# Altium schematic symbol library Resistors1.SchLib: 13 symbols
Pins are listed as number, name and electrical type; pins without a type are passive.

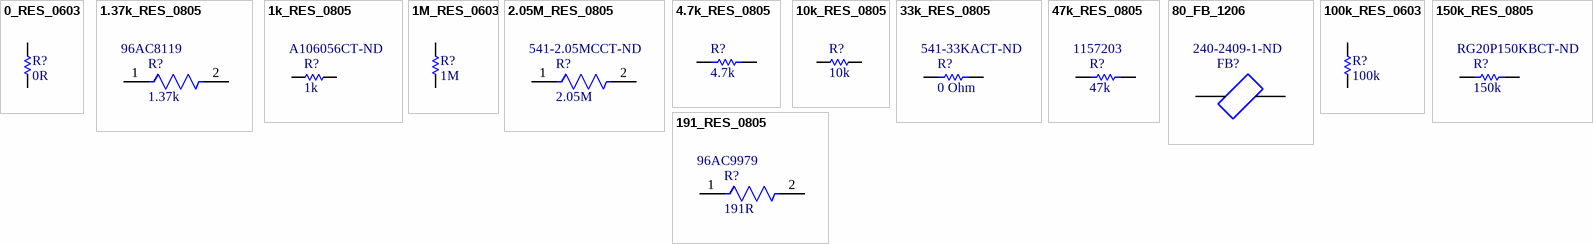
[diagram p0: symbols 0_RES_0603 to 191_RES_0805]

## 0_RES_0603
designator R?, comment SchematicInformation: 0R  (hidden comment: RES_0R_1%_0603)
Fixed Resistor, Metal Glaze/thick Film, 0.1W, 0ohm, Surface Mount, 0603; Manufacturer Part Number: RC0603FR-070RL; Manufacturer: Yageo; DigiKey Part Number: 311-0.0HRCT-ND; Supplier 1: Newark; RoHS: Yes; Category: Chip SMD Resistors; Stock 1: 133959; Pricing 1: 10=0.01200, 25=0.01000, 50=0.00700, 100=0.00500 (USD); ComponentLink1URL: https://datasheet.ciiva.com:443/pdfs/VipMasterIC/IC/YAGO/YAGOS02869/YAGOS02869-1.pdf?src-supplier=IHS+Markit; ComponentLink1Description: https://datasheet.ciiva.com:443/pdfs/VipMasterIC/IC/YAGO/YAGOS02869/YAGOS02869-1.pdf?src-supplier=IHS+Markit; ComponentLink2URL: https://datasheet.ciiva.com/11808/0900766b80f96399-11808172.pdf?src-supplier=RSComponents; ComponentLink2Description: https://datasheet.ciiva.com/11808/0900766b80f96399-11808172.pdf?src-supplier=RSComponents; ComponentLink3URL: https://datasheet.ciiva.com/5558/rc0603-272842-5558341.pdf?src-supplier=Mouser; ComponentLink3Description: https://datasheet.ciiva.com/5558/rc0603-272842-5558341.pdf?src-supplier=Mouser; ComponentLink4URL: https://datasheet.ciiva.com/29721/pyu-r-int-thick-7-29721178.pdf?src-supplier=Digi-Key; ComponentLink4Description: https://datasheet.ciiva.com/29721/pyu-r-int-thick-7-29721178.pdf?src-supplier=Digi-Key; ComponentLink5URL: https://datasheet.ciiva.com/29721/pyu-rc0603-51-rohs-l-4-29721179.pdf?src-supplier=Digi-Key; ComponentLink5Description: https://datasheet.ciiva.com/29721/pyu-rc0603-51-rohs-l-4-29721179.pdf?src-supplier=Digi-Key; ComponentLink6URL: https://datasheet.ciiva.com/5684/443971-5684699.pdf?src-supplier=Farnell; ComponentLink6Description: https://datasheet.ciiva.com/5684/443971-5684699.pdf?src-supplier=Farnell; ComponentLink7URL: https://datasheet.ciiva.com/7983/443971-7983627.pdf?src-supplier=Element14; ComponentLink7Description: https://datasheet.ciiva.com/7983/443971-7983627.pdf?src-supplier=Element14; ComponentLink8URL: https://datasheet.ciiva.com/22643/1868787-22643388.pdf?src-supplier=Element14; ComponentLink8Description: https://datasheet.ciiva.com/22643/1868787-22643388.pdf?src-supplier=Element14; ComponentLink9URL: https://datasheet.ciiva.com/46382/443971-46382072.pdf?src-supplier=Element14; ComponentLink9Description: https://datasheet.ciiva.com/46382/443971-46382072.pdf?src-supplier=Element14; Supplier Part Number 1: 50Y7761
footprint R_0603 (Footprint not found)
pins: 1, 2

## 1.37k_RES_0805
designator R?, comment 1.37k  Supplier Part Number 1: 96AC8119
Fixed Resistor, Thin Film, 0.2W, 1370ohm, 100V, 0.1% +/-Tol, 10ppm/Cel, Surface Mount, 0805; Manufacturer: TE Connectivity; Manufacturer Part Number: RQ73C2A1K37BTD; Value: 1.37KΩ; Automotive Grade: Grade 0; Temperature Coefficient: 10ppm/°C; Temperature Range High: +155°C; RoHS: TRUE; Ipc Land Pattern Name: RESC200125X50; Voltage Rating: 100V; Device Class L2: Resistors; Resistance: 1.37KΩ; Series: RQ73; Category: Res; Composition: Thin Film; Automotive: Yes; Height: 0.65mm; Device Class L1: Passive Components; ComponentLink2Description: Datasheet; Temperature: -55°C to +155°C; Octopart: https://octopart.com/rq73c2a1k37btd-te+connectivity-93909715; Package: RQ73C2A; ComponentLink2URL: https://www.te.com/commerce/DocumentDelivery/DDEController?Action=showdoc&DocId=Data+Sheet%7F1773270-2%7FA%7Fpdf%7FEnglish%7FENG_DS_1773270-2_A.pdf%7F8-2176381-365; Power Rating: 0.2W; Temperature Range Low: -55°C; Lead Free: Yes; Device Class L3: Chip SMD Resistors; Tolerance: 0.1%; Supplier 1: Newark; RoHS Compliant: Yes; ComponentLink1URL: https://datasheet.ciiva.com:443/pdfs/VipMasterIC/IC/TYEL/TYEL-S-A0009522825/TYEL-S-A0009524488-1.pdf?src-supplier=IHS+Markit; ComponentLink1Description: https://datasheet.ciiva.com:443/pdfs/VipMasterIC/IC/TYEL/TYEL-S-A0009522825/TYEL-S-A0009524488-1.pdf?src-supplier=IHS+Markit
footprint 0805_B
pins: 1, 2

## 1k_RES_0805
designator R?, comment value 1k  Supplier Part Number 1: A106056CT-ND  (hidden comment: Resistor)
Fixed Resistor, Metal Glaze/thick Film, 0.125W, 1000ohm, 150V, 1% +/-Tol, 100ppm/Cel, Surface Mount, 0805; Manufacturer: TE Connectivity; Manufacturer Part Number: CRG0805F1K0; Manufacturer Series: CRG; Additional Feature: LASER TRIMMABLE; Rated Power Dissipation (P): 125mW; Rated Temperature: 70°C; Resistance: 1kR; Temperature Coefficient: 100ppm/°C; Supplier 1: Digi-Key; RoHS: Yes; Category: Chip SMD Resistors; Stock 1: 144237; Pricing 1: 1=0.10000, 10=0.05500, 100=0.02250, 1000=0.01009, 2500=0.00876 (USD); Mount: Surface Mount; Number of Pins: 2; Package Shape: Rectangular; Size Code: 0805; Min Operating Temperature: -55°C; Max Operating Temperature: 125°C; Tolerance: 1%; Resistor Type: FIXED RESISTOR; Packaging: Tape and Reel; Technology: METAL GLAZE/THICK FILM; Termination: Wraparound; Working Voltage: 150V; REACH SVHC: Yes; RoHS Compliant: Yes; ComponentLink1URL: https://datasheet.ciiva.com:443/pdfs/VipMasterIC/IC/TYEC/TYECS00469/TYECS00469-1.pdf?src-supplier=IHS+Markit; ComponentLink1Description: https://datasheet.ciiva.com:443/pdfs/VipMasterIC/IC/TYEC/TYECS00469/TYECS00469-1.pdf?src-supplier=IHS+Markit; ComponentLink2URL: https://datasheet.ciiva.com/11808/0900766b800a696e-11808642.pdf?src-supplier=RSComponents; ComponentLink2Description: https://datasheet.ciiva.com/11808/0900766b800a696e-11808642.pdf?src-supplier=RSComponents; ComponentLink3URL: https://datasheet.ciiva.com/16781/70063020-16781365.pdf?src-supplier=Allied+Electronics; ComponentLink3Description: https://datasheet.ciiva.com/16781/70063020-16781365.pdf?src-supplier=Allied+Electronics
footprint 0805_B
pins: 1, 2

## 1M_RES_0603
designator R?, comment SchematicInformation: 1M  (hidden comment: RES_1M_1%_0603)
Fixed Resistor, Metal Glaze/thick Film, 0.1W, 1000000ohm, 75V, 5% +/-Tol, 100ppm/Cel, Surface Mount, 0603; Manufacturer Part Number: RC0603FR-071ML; Manufacturer: Yageo; DigiKey Part Number: 311-1.00MHRCT-ND; Supplier 1: Digi-Key; RoHS: Yes; Category: Chip SMD Resistors; Stock 1: 101242; Pricing 1: 1=0.10000, 10=0.02500, 100=0.01020, 1000=0.00457, 2500=0.00397 (USD); Number of Pins: 2; Resistor Type: FIXED RESISTOR; REACH SVHC: Yes; RoHS Compliant: Yes; ComponentLink1URL: https://datasheet.ciiva.com:443/pdfs/VipMasterIC/IC/TYEL/TYEL-S-A0009520761/TYEL-S-A0009519607-1.pdf?src-supplier=IHS+Markit; ComponentLink1Description: https://datasheet.ciiva.com:443/pdfs/VipMasterIC/IC/TYEL/TYEL-S-A0009520761/TYEL-S-A0009519607-1.pdf?src-supplier=IHS+Markit; ComponentLink2URL: https://www.te.com/commerce/DocumentDelivery/DDEController?Action=srchrtrv&amp;DocNm=1773204-3&amp;DocType=DS&amp;DocLang=English&src-supplier=Digi-Key; ComponentLink2Description: https://www.te.com/commerce/DocumentDelivery/DDEController?Action=srchrtrv&amp;DocNm=1773204-3&amp;DocType=DS&amp;DocLang=English&src-supplier=Digi-Key; ComponentLink3URL: https://www.te.com/commerce/DocumentDelivery/DDEController?Action=srchrtrv&DocNm=1773204-3&DocType=DS&DocLang=English&src-supplier=Digi-Key; ComponentLink3Description: https://www.te.com/commerce/DocumentDelivery/DDEController?Action=srchrtrv&DocNm=1773204-3&DocType=DS&DocLang=English&src-supplier=Digi-Key; ComponentLink4URL: https://4donline.ihs.com/images/VipMasterIC/IC/TYEL/TYEL-S-A0004929575/TYEL-S-A0004929575-1.pdf?hkey=52A5661711E402568146F3353EA87419&src-supplier=Newark; ComponentLink4Description: https://4donline.ihs.com/images/VipMasterIC/IC/TYEL/TYEL-S-A0004929575/TYEL-S-A0004929575-1.pdf?hkey=52A5661711E402568146F3353EA87419&src-supplier=Newark; ComponentLink5URL: https://4donline.ihs.com/images/VipMasterIC/IC/TYEL/TYEL-S-A0004929575/TYEL-S-A0004929575-1.pdf?hkey=52A5661711E402568146F3353EA87419&src-supplier=Element14; ComponentLink5Description: https://4donline.ihs.com/images/VipMasterIC/IC/TYEL/TYEL-S-A0004929575/TYEL-S-A0004929575-1.pdf?hkey=52A5661711E402568146F3353EA87419&src-supplier=Element14; ComponentLink6URL: https://4donline.ihs.com/images/VipMasterIC/IC/TYEL/TYEL-S-A0004929575/TYEL-S-A0004929575-1.pdf?hkey=52A5661711E402568146F3353EA87419&src-supplier=Farnell; ComponentLink6Description: https://4donline.ihs.com/images/VipMasterIC/IC/TYEL/TYEL-S-A0004929575/TYEL-S-A0004929575-1.pdf?hkey=52A5661711E402568146F3353EA87419&src-supplier=Farnell; Supplier Part Number 1: A130109CT-ND
footprint R_0603 (0603 SMT resistor)
pins: 1, 2

## 2.05M_RES_0805
designator R?, comment 2.05M  Supplier Part Number 1: 541-2.05MCCT-ND
Fixed Resistor, Metal Glaze/thick Film, 0.125W, 2050000ohm, 150V, 1% +/-Tol, 100ppm/Cel, Surface Mount, 0805; Manufacturer: Vishay; Manufacturer Part Number: CRCW08052M05FKEA; Resistance: 2.05MR; Power Rating: 125mW; Temperature Coefficient: 100ppm/°C; Rated Temperature: 70°C; Package Height: 0.45mm; Package Length: 2mm; Package Width: 1.25mm; Reference Standard: AEC-Q200; Voltage Rating: 150V; Width: 0.049inch; Weight: 0.000194oz; Max Operating Temperature: 155°C; Case Code (Metric): 2012; Lead Free: Lead Free; Radiation Hardening: No; Voltage Rating (DC): 150V; Case Code (Imperial): 0805; Packaging: Tape and Reel; Length: 2mm; Case/Package: 0805; Number of Pins: 2; Military Standard: Not; Contact Plating: Tin; Number of Terminations: 2; Tolerance: 1%; Depth: 1.25mm; Termination: SMD/SMT; Min Operating Temperature: -55°C; Max Power Dissipation: 125mW; Composition: Thick Film; Height: 0.02inch; Package Quantity: 10; Features: Automotive AEC-Q200; Supplier 1: Digi-Key; RoHS: Yes; Category: Chip SMD Resistors; Stock 1: 2401; Pricing 1: 1=0.10000, 10=0.05800, 100=0.02360, 1000=0.01060 (USD); Mount: Surface Mount; Package Shape: Rectangular; Size Code: 0805; Terminal Finish: Nickel; JESD-609 Code: e3; Resistor Type: FIXED RESISTOR; Construction: Chip; Package Style: SMTMeter; Rated Power Dissipation (P): 125mW; Technology: METAL GLAZE/THICK FILM; Working Voltage: 150V; REACH SVHC: Yes; RoHS Compliant: Yes; ComponentLink1URL: https://datasheet.ciiva.com:443/pdfs/VipMasterIC/IC/VISH/VISH-S-A0007266705/VISH-S-A0007266705-1.pdf?src-supplier=IHS+Markit; ComponentLink1Description: https://datasheet.ciiva.com:443/pdfs/VipMasterIC/IC/VISH/VISH-S-A0007266705/VISH-S-A0007266705-1.pdf?src-supplier=IHS+Markit; ComponentLink2URL: https://datasheet.ciiva.com/7801/1697337-7801119.pdf?src-supplier=Element14; ComponentLink2Description: https://datasheet.ciiva.com/7801/1697337-7801119.pdf?src-supplier=Element14; ComponentLink3URL: https://datasheet.ciiva.com/2496/dcrcwe3-2496262.pdf?src-supplier=Digi-Key; ComponentLink3Description: https://datasheet.ciiva.com/2496/dcrcwe3-2496262.pdf?src-supplier=Digi-Key; ComponentLink4URL: https://datasheet.ciiva.com/2496/dcrcwe3-2496263.pdf?src-supplier=Digi-Key; ComponentLink4Description: https://datasheet.ciiva.com/2496/dcrcwe3-2496263.pdf?src-supplier=Digi-Key; ComponentLink5URL: https://datasheet.ciiva.com/2496/dcrcwe3-2496264.pdf?src-supplier=Digi-Key; ComponentLink5Description: https://datasheet.ciiva.com/2496/dcrcwe3-2496264.pdf?src-supplier=Digi-Key; ComponentLink6URL: https://datasheet.ciiva.com/5543/dcrcwe3-109170-5543535.pdf?src-supplier=Mouser; ComponentLink6Description: https://datasheet.ciiva.com/5543/dcrcwe3-109170-5543535.pdf?src-supplier=Mouser; ComponentLink7URL: https://datasheet.ciiva.com/9092/dcrcwe3-9092713.pdf?src-supplier=Avnet; ComponentLink7Description: https://datasheet.ciiva.com/9092/dcrcwe3-9092713.pdf?src-supplier=Avnet
footprint 0805_B
pins: 1, 2

## 4.7k_RES_0805
designator R?, comment 4.7k
CRCW08054K70JNEB; Manufacturer: Vishay Dale; Part Number: CRCW08054K70JNEB; Manufacturer Part Number: CRCW08054K70JNEB
footprint 0805_B
pins: 1, 2
1 alternate drawing of the same symbol

## 10k_RES_0805
designator R?, comment value 10k  (hidden comment: 1% 1/8W)
Fixed Resistor, Metal Glaze/thick Film, 0.125W, 10000ohm, 150V, 1% +/-Tol, 100ppm/Cel, Surface Mount, 0805; Manufacturer: Stackpole Electronics; Manufacturer Part Number: RMCF0805FT10K0; Rated Power Dissipation (P): 125mW; Rated Temperature: 70°C; Resistance: 10kR; Temperature Coefficient: 100ppm/°C; Package Height: 0.5mm; Package Length: 2mm; Package Width: 1.25mm; Reference Standard: AEC-Q200; ComponentLink1Description: Datasheet; ComponentLink1URL: http://media.digikey.com/pdf/Data%20Sheets/Rohm%20PDFs/MCR10%20(new)%20series.pdf; Supplier 1: Digi-Key; RoHS: Yes; Category: Chip SMD Resistors; Stock 1: 3419355; Pricing 1: 1=0.10000, 10=0.02700, 100=0.01090, 1000=0.00488, 2500=0.00423 (USD); Mount: Surface Mount; Number of Pins: 2; Package Shape: Rectangular; Size Code: 0805; Terminal Finish: Nickel; Min Operating Temperature: -55°C; Max Operating Temperature: 155°C; Tolerance: 1%; JESD-609 Code: e3; Resistor Type: FIXED RESISTOR; Construction: Rectangular; Package Style: SMTMeter; Packaging: Tape and Reel; Technology: METAL GLAZE/THICK FILM; Termination: Wraparound; Working Voltage: 150V; REACH SVHC: Yes; RoHS Compliant: Yes; ComponentLink2URL: https://datasheet.ciiva.com:443/pdfs/VipMasterIC/IC/SEIE/SEIE-S-A0009541969/SEIE-S-A0009541969-1.pdf?src-supplier=IHS+Markit; ComponentLink2Description: https://datasheet.ciiva.com:443/pdfs/VipMasterIC/IC/SEIE/SEIE-S-A0009541969/SEIE-S-A0009541969-1.pdf?src-supplier=IHS+Markit; ComponentLink3URL: https://datasheet.ciiva.com/15193/getdatasheetpartid-362046-15193525.pdf?src-supplier=Verical; ComponentLink3Description: https://datasheet.ciiva.com/15193/getdatasheetpartid-362046-15193525.pdf?src-supplier=Verical; Supplier Part Number 1: RMCF0805FT10K0CT-ND
footprint 0805_B
pins: 1, 2

## 33k_RES_0805
designator R?, comment 0 Ohm  Supplier Part Number 1: 541-33KACT-ND
Fixed Resistor, Metal Glaze/thick Film, 0.125W, 33000ohm, 150V, 5% +/-Tol, 200ppm/Cel, Surface Mount, 0805; Part Number: CRCW080533K0JNEA; Manufacturer: Vishay Dale; Rated Power Dissipation (P): 125mW; Rated Temperature: 70°C; Resistance: 33kR; Temperature Coefficient: 200ppm/°C; Package Height: 0.45mm; Package Length: 2mm; Package Width: 1.25mm; Reference Standard: AEC-Q200; Manufacturer Part Number: CRCW080533K0JNEA; Supplier 1: Digi-Key; RoHS: Yes; Category: Chip SMD Resistors; Stock 1: 9684; Pricing 1: 1=0.10000, 10=0.05000, 100=0.02040, 1000=0.00914, 2500=0.00794 (USD); Mount: Surface Mount; Number of Pins: 2; Package Shape: Rectangular; Size Code: 0805; Terminal Finish: Nickel; Min Operating Temperature: -55°C; Max Operating Temperature: 155°C; Tolerance: 5%; JESD-609 Code: e3; Resistor Type: FIXED RESISTOR; Construction: Chip; Package Style: SMTMeter; Packaging: Tape and Reel; Technology: METAL GLAZE/THICK FILM; Termination: Wraparound; Working Voltage: 150V; REACH SVHC: Yes; RoHS Compliant: Yes; ComponentLink1URL: https://datasheet.ciiva.com:443/pdfs/VipMasterIC/IC/VISH/VISH-S-A0007266705/VISH-S-A0007266705-1.pdf?src-supplier=IHS+Markit; ComponentLink1Description: https://datasheet.ciiva.com:443/pdfs/VipMasterIC/IC/VISH/VISH-S-A0007266705/VISH-S-A0007266705-1.pdf?src-supplier=IHS+Markit; ComponentLink2URL: https://datasheet.ciiva.com/26933/getdatasheetpartid-37536-26933813.pdf?src-supplier=Verical; ComponentLink2Description: https://datasheet.ciiva.com/26933/getdatasheetpartid-37536-26933813.pdf?src-supplier=Verical; ComponentLink3URL: https://datasheet.ciiva.com/2464/dcrcwe3-2464264.pdf?src-supplier=Digi-Key; ComponentLink3Description: https://datasheet.ciiva.com/2464/dcrcwe3-2464264.pdf?src-supplier=Digi-Key; ComponentLink4URL: https://datasheet.ciiva.com/2464/dcrcwe3-2464265.pdf?src-supplier=Digi-Key; ComponentLink4Description: https://datasheet.ciiva.com/2464/dcrcwe3-2464265.pdf?src-supplier=Digi-Key; ComponentLink5URL: https://datasheet.ciiva.com/2464/dcrcwe3-2464266.pdf?src-supplier=Digi-Key; ComponentLink5Description: https://datasheet.ciiva.com/2464/dcrcwe3-2464266.pdf?src-supplier=Digi-Key; ComponentLink6URL: https://datasheet.ciiva.com/9017/dcrcwe3-9017086.pdf?src-supplier=Avnet; ComponentLink6Description: https://datasheet.ciiva.com/9017/dcrcwe3-9017086.pdf?src-supplier=Avnet; ComponentLink7URL: https://datasheet.ciiva.com/5545/dcrcwe3-109170-5545622.pdf?src-supplier=Mouser; ComponentLink7Description: https://datasheet.ciiva.com/5545/dcrcwe3-109170-5545622.pdf?src-supplier=Mouser; ComponentLink8URL: https://datasheet.ciiva.com/28561/1912744-28561151.pdf?src-supplier=Element14; ComponentLink8Description: https://datasheet.ciiva.com/28561/1912744-28561151.pdf?src-supplier=Element14; ComponentLink9URL: https://datasheet.ciiva.com/16204/dcrcwe3-16204245.pdf?src-supplier=Future+Electronics; ComponentLink9Description: https://datasheet.ciiva.com/16204/dcrcwe3-16204245.pdf?src-supplier=Future+Electronics; ComponentLink10URL: https://datasheet.ciiva.com/17181/dcrcwe3-17181053.pdf?src-supplier=Avnet+Europe; ComponentLink10Description: https://datasheet.ciiva.com/17181/dcrcwe3-17181053.pdf?src-supplier=Avnet+Europe
footprint 0805_B
pins: 1, 2
1 alternate drawing of the same symbol

## 47k_RES_0805
designator R?, comment 47k  Supplier Part Number 1: 1157203
Fixed Resistor, Metal Glaze/thick Film, 0.125W, 8660ohm, 150V, 1% +/-Tol, 100ppm/Cel, Surface Mount, 0805; Manufacturer: Yageo; Part Number: RC0805FR-078K66L; Additional Feature: LASER TRIMMABLE; Rated Power Dissipation (P): 125mW; Rated Temperature: 70°C; Resistance: 8.66kR; Temperature Coefficient: 100ppm/°C; Package Height: 0.5mm; Package Length: 2mm; Package Width: 1.25mm; Manufacturer Part Number: RC0805FR-078K66L; Supplier 1: Future Electronics; RoHS: Yes; Category: Chip SMD Resistors; Stock 1: 90000; Pricing 1: 5000=0.00310, 20000=0.00260, 75000=0.00250, 150000=0.00250, 375000=0.00250 (USD); Mount: Surface Mount; Number of Pins: 2; Package Shape: Rectangular; Size Code: 0805; Terminal Finish: Nickel; Min Operating Temperature: -55°C; Max Operating Temperature: 155°C; Tolerance: 1%; JESD-609 Code: e3; Resistor Type: FIXED RESISTOR; Construction: Chip; Package Style: SMTMeter; Packaging: Tape and Reel; Technology: METAL GLAZE/THICK FILM; Termination: Wraparound; Working Voltage: 150V; REACH SVHC: Yes; RoHS Compliant: Yes; ComponentLink1URL: https://datasheet.ciiva.com:443/pdfs/VipMasterIC/IC/YAGO/YAGO-S-A0008145938/YAGO-S-A0008145938-1.pdf?src-supplier=IHS+Markit; ComponentLink1Description: https://datasheet.ciiva.com:443/pdfs/VipMasterIC/IC/YAGO/YAGO-S-A0008145938/YAGO-S-A0008145938-1.pdf?src-supplier=IHS+Markit; ComponentLink2URL: https://datasheet.ciiva.com/2458/pyu-r-int-thick-7-2458034.pdf?src-supplier=Digi-Key; ComponentLink2Description: https://datasheet.ciiva.com/2458/pyu-r-int-thick-7-2458034.pdf?src-supplier=Digi-Key; ComponentLink3URL: https://datasheet.ciiva.com/2458/pyu-r-int-thick-7-2458035.pdf?src-supplier=Digi-Key; ComponentLink3Description: https://datasheet.ciiva.com/2458/pyu-r-int-thick-7-2458035.pdf?src-supplier=Digi-Key; ComponentLink4URL: https://datasheet.ciiva.com/2458/pyu-r-int-thick-7-2458036.pdf?src-supplier=Digi-Key; ComponentLink4Description: https://datasheet.ciiva.com/2458/pyu-r-int-thick-7-2458036.pdf?src-supplier=Digi-Key; ComponentLink5URL: https://datasheet.ciiva.com/15190/getdatasheetpartid-553176-15190021.pdf?src-supplier=Verical; ComponentLink5Description: https://datasheet.ciiva.com/15190/getdatasheetpartid-553176-15190021.pdf?src-supplier=Verical
footprint 0805_B
pins: 1, 2
1 alternate drawing of the same symbol

## 80_FB_1206
designator FB?, comment Supplier Part Number 1: 240-2409-1-ND  (hidden comment: HI1206N800R-10)
Ferrite Chip, 1 Function(s), 3A, 2 Pin(s); Manufacturer: Laird Steward; Manufacturer Series: HI; MF: Laird-Signal Integrity; Value: 80R; DC Resistance-Max: 35mR; Number of Functions: 1; Max Frequency: 100MHz; SnapEDA_Link: https://www.snapeda.com/parts/HI1206N800R-10/Laird-Signal%20Integrity%20Products/view-part/296889/?ref=snap; Purchase-URL: https://pricing.snapeda.com/search/part/HI1206N800R-10/?ref=eda; Check_prices: https://www.snapeda.com/parts/HI1206N800R-10/Laird-Signal%20Integrity%20Products/view-part/296889/?ref=eda; Digi-Key_Part_Number: 240-2409-1-ND; Package: 1206 Laird-Signal Integrity; MP: HI1206N800R-10; Supplier 1: Digi-Key; Manufacturer Part Number: HI1206N800R-10; RoHS: Yes; Category: Fixed Inductors; Stock 1: 9365; Pricing 1: 1=0.23000, 10=0.18500, 25=0.14400, 50=0.11920, 100=0.10280, 250=0.08220, 500=0.07400, 1000=0.06166 (USD); Mount: Surface Mount; Terminal Finish: Nickel; Material: Ferrite; Case Code: 1206; Min Operating Temperature: -55°C; Max Operating Temperature: 125°C; JESD-609 Code: e3; Filter Type: FERRITE CHIP; Output Impedance: 80R; Packaging: Tape and Reel; Construction: Chip Bead; Min Frequency: 100MHz; Current Rating: 3A; Series: HI1206N800R; Length: 3.2mm; Width: 1.6mm; Height: 1.1mm; REACH SVHC: No SVHC; RoHS Compliant: Yes; ComponentLink1URL: https://datasheet.ciiva.com:443/pdfs/VipMasterIC/IC/STWD/STWDS00332/STWDS00332-1.pdf?src-supplier=IHS+Markit; ComponentLink1Description: https://datasheet.ciiva.com:443/pdfs/VipMasterIC/IC/STWD/STWDS00332/STWDS00332-1.pdf?src-supplier=IHS+Markit; ComponentLink2URL: https://datasheet.ciiva.com/3081/hi1206n800r-10-a-vp-3081809.pdf?src-supplier=Avnet; ComponentLink2Description: https://datasheet.ciiva.com/3081/hi1206n800r-10-a-vp-3081809.pdf?src-supplier=Avnet; ComponentLink3URL: https://datasheet.ciiva.com/22622/1685745-22622768.pdf?src-supplier=Element14; ComponentLink3Description: https://datasheet.ciiva.com/22622/1685745-22622768.pdf?src-supplier=Element14; ComponentLink4URL: https://datasheet.ciiva.com/16714/70065439-16714107.pdf?src-supplier=Allied+Electronics; ComponentLink4Description: https://datasheet.ciiva.com/16714/70065439-16714107.pdf?src-supplier=Allied+Electronics
footprint 80_FB_1206
pins: 1, 2

## 100k_RES_0603
designator R?, comment SchematicInformation: 100k  (hidden comment: RES_100k_1%_0603)
Fixed Resistor, Metal Glaze/thick Film, 0.1W, 100000ohm, 75V, 1% +/-Tol, 100ppm/Cel, Surface Mount, 0603; Manufacturer Part Number: RC0603FR-07100KL; Manufacturer: Yageo; Additional Feature: LASER TRIMMABLE; Rated Power Dissipation (P): 100mW; Rated Temperature: 70°C; Resistance: 100kR; Temperature Coefficient: 100ppm/°C; Package Height: 0.45mm; Package Length: 1.6mm; Package Width: 0.8mm; DigiKey Part Number: 311-100KHRCT-ND; Supplier 1: Digi-Key; RoHS: Yes; Category: Chip SMD Resistors; Stock 1: 13285457; Pricing 1: 1=0.10000, 10=0.02400, 100=0.00970, 1000=0.00436, 2500=0.00378 (USD); Mount: Surface Mount; Number of Pins: 2; Package Shape: Rectangular; Size Code: 0603; Terminal Finish: Nickel; Min Operating Temperature: -55°C; Max Operating Temperature: 155°C; Tolerance: 1%; JESD-609 Code: e3; Resistor Type: FIXED RESISTOR; Construction: Chip; Package Style: SMTMeter; Packaging: Tape and Reel; Technology: METAL GLAZE/THICK FILM; Termination: Wraparound; Working Voltage: 75V; REACH SVHC: Yes; RoHS Compliant: Yes; ComponentLink1URL: https://datasheet.ciiva.com:443/pdfs/VipMasterIC/IC/YAGO/YAGO-S-A0008145938/YAGO-S-A0008145938-1.pdf?src-supplier=IHS+Markit; ComponentLink1Description: https://datasheet.ciiva.com:443/pdfs/VipMasterIC/IC/YAGO/YAGO-S-A0008145938/YAGO-S-A0008145938-1.pdf?src-supplier=IHS+Markit; ComponentLink2URL: https://datasheet.ciiva.com/11808/0900766b80f96399-11808107.pdf?src-supplier=RSComponents; ComponentLink2Description: https://datasheet.ciiva.com/11808/0900766b80f96399-11808107.pdf?src-supplier=RSComponents; ComponentLink3URL: https://datasheet.ciiva.com/7746/1738695-7746234.pdf?src-supplier=Element14; ComponentLink3Description: https://datasheet.ciiva.com/7746/1738695-7746234.pdf?src-supplier=Element14; ComponentLink4URL: https://datasheet.ciiva.com/7746/1738695-7746235.pdf?src-supplier=Element14; ComponentLink4Description: https://datasheet.ciiva.com/7746/1738695-7746235.pdf?src-supplier=Element14; ComponentLink5URL: https://datasheet.ciiva.com/7983/443971-7983593.pdf?src-supplier=Element14; ComponentLink5Description: https://datasheet.ciiva.com/7983/443971-7983593.pdf?src-supplier=Element14; ComponentLink6URL: https://datasheet.ciiva.com/22747/443971-22747516.pdf?src-supplier=Element14; ComponentLink6Description: https://datasheet.ciiva.com/22747/443971-22747516.pdf?src-supplier=Element14; ComponentLink7URL: https://datasheet.ciiva.com/46440/1868787-46440889.pdf?src-supplier=Element14; ComponentLink7Description: https://datasheet.ciiva.com/46440/1868787-46440889.pdf?src-supplier=Element14; Supplier Part Number 1: 311-100KHRCT-ND
footprint R_0603 (0603 SMT resistor)
pins: 1, 2

## 150k_RES_0805
designator R?, comment 150k  Supplier Part Number 1: RG20P150KBCT-ND
Fixed Resistor, Thin Film, 0.125W, 150000ohm, 150V, 0.1% +/-Tol, 25ppm/Cel, Surface Mount, 0805; Part Number: RG2012P-154-B-T5; Manufacturer: Susumu; Additional Feature: ANTI-SULFUR, PRECISION; Rated Power Dissipation (P): 250mW; Rated Temperature: 70°C; Resistance: 150kR; Temperature Coefficient: 25ppm/°C; Package Height: 0.4mm; Package Length: 2mm; Package Width: 1.25mm; Reference Standard: AEC-Q200; Manufacturer Part Number: RG2012P-154-B-T5; Supplier 1: Digi-Key; RoHS: Yes; Category: Chip SMD Resistors; Stock 1: 26199; Pricing 1: 1=0.38000, 10=0.27200, 100=0.10870, 1000=0.05355, 2500=0.04961 (USD); Mount: Surface Mount; Number of Pins: 2; Size Code: 0805; Terminal Finish: Nickel; Min Operating Temperature: -55°C; Max Operating Temperature: 155°C; Tolerance: 0.1%; JESD-609 Code: e3; Resistor Type: FIXED RESISTOR; Construction: Rectangular; Package Style: SMTMeter; Packaging: Tape and Reel; Technology: THIN FILM; Termination: Wraparound; Working Voltage: 150V; REACH SVHC: Yes; RoHS Compliant: Yes; ComponentLink1URL: https://datasheet.ciiva.com:443/pdfs/VipMasterIC/IC/SUSU/SUSU-S-A0004582566/SUSU-S-A0004582566-1.pdf?src-supplier=IHS+Markit; ComponentLink1Description: https://datasheet.ciiva.com:443/pdfs/VipMasterIC/IC/SUSU/SUSU-S-A0004582566/SUSU-S-A0004582566-1.pdf?src-supplier=IHS+Markit; ComponentLink2URL: https://datasheet.ciiva.com/26874/getdatasheetpartid-485591-26874895.pdf?src-supplier=Verical; ComponentLink2Description: https://datasheet.ciiva.com/26874/getdatasheetpartid-485591-26874895.pdf?src-supplier=Verical; ComponentLink3URL: https://datasheet.ciiva.com/2488/rg-data-sheet-2488819.pdf?src-supplier=Digi-Key; ComponentLink3Description: https://datasheet.ciiva.com/2488/rg-data-sheet-2488819.pdf?src-supplier=Digi-Key; ComponentLink4URL: https://datasheet.ciiva.com/2488/rg-data-sheet-2488820.pdf?src-supplier=Digi-Key; ComponentLink4Description: https://datasheet.ciiva.com/2488/rg-data-sheet-2488820.pdf?src-supplier=Digi-Key; ComponentLink5URL: https://datasheet.ciiva.com/2488/rg-data-sheet-2488821.pdf?src-supplier=Digi-Key; ComponentLink5Description: https://datasheet.ciiva.com/2488/rg-data-sheet-2488821.pdf?src-supplier=Digi-Key; ComponentLink6URL: https://datasheet.ciiva.com/17426/rg-data-sheet-17426298.pdf?src-supplier=Future+Electronics; ComponentLink6Description: https://datasheet.ciiva.com/17426/rg-data-sheet-17426298.pdf?src-supplier=Future+Electronics; ComponentLink7URL: https://datasheet.ciiva.com/5623/rg-rm-rgh-datasheet-5623934.pdf?src-supplier=Mouser; ComponentLink7Description: https://datasheet.ciiva.com/5623/rg-rm-rgh-datasheet-5623934.pdf?src-supplier=Mouser
footprint 0805_B
pins: 1, 2
1 alternate drawing of the same symbol

## 191_RES_0805
designator R?, comment 191R  Supplier Part Number 1: 96AC9979
Fixed Resistor, Thin Film, 0.2W, 191ohm, 100V, 0.1% +/-Tol, 10ppm/Cel, Surface Mount, 0805; Manufacturer: TE Connectivity; Manufacturer Part Number: RQ73C2A191RBTD; Temperature Coefficient: 10ppm/°C; Value: 191Ω; Automotive Grade: Grade 0; Device Class L2: Resistors; Temperature Range Low: -55°C; Package: RQ73C2A; Device Class L1: Passive Components; RoHS: TRUE; ComponentLink2URL: https://www.te.com/commerce/DocumentDelivery/DDEController?Action=showdoc&DocId=Data+Sheet%7F1773270-2%7FA%7Fpdf%7FEnglish%7FENG_DS_1773270-2_A.pdf%7F8-2176381-267; Lead Free: Yes; Ipc Land Pattern Name: RESC200125X50; Series: RQ73; ComponentLink2Description: Datasheet; Tolerance: 0.1%; Composition: Thin Film; Temperature: -55°C to +155°C; Power Rating: 0.2W; Device Class L3: Chip SMD Resistors; Height: 0.65mm; Resistance: 191Ω; Voltage Rating: 100V; Category: Res; Automotive: Yes; Temperature Range High: +155°C; Octopart: https://octopart.com/rq73c2a191rbtd-te+connectivity-93909652; Supplier 1: Newark; RoHS Compliant: Yes; ComponentLink1URL: https://datasheet.ciiva.com:443/pdfs/VipMasterIC/IC/TYEL/TYEL-S-A0009522825/TYEL-S-A0009524174-1.pdf?src-supplier=IHS+Markit; ComponentLink1Description: https://datasheet.ciiva.com:443/pdfs/VipMasterIC/IC/TYEL/TYEL-S-A0009522825/TYEL-S-A0009524174-1.pdf?src-supplier=IHS+Markit
footprint 0805_B
pins: 1, 2